# EAGLE library part SN74AUP3G17 (library Kas-Buffers & Level Shifters)
LOW-POWER TRIPLE SCHMITT-TRIGGER BUFFER
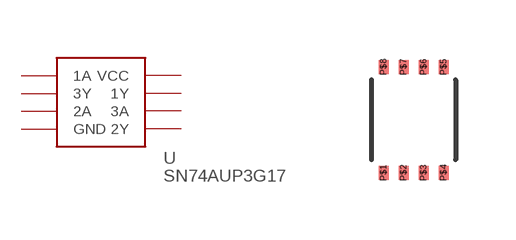
[diagram p3: symbol with the pads of 8-VFSOP; footprint 8-VFSOP]

Designator prefix U

## SN74AUP3G17  [8-VFSOP]
P$1  1A
P$2  3Y
P$3  2A
P$4  GND
P$5  2Y
P$6  3A
P$7  1Y
P$8  VCC

## Footprint 8-VFSOP (pad centres in mm)
smd 0.25 x 0.35: P$1 -0.75,-1.325; P$2 -0.25,-1.325; P$3 0.25,-1.325; P$4 0.75,-1.325; P$5 0.75,1.325; P$6 0.25,1.325; P$7 -0.25,1.325; P$8 -0.75,1.325